# EAGLE library part 74HC08D_AND (library eagle-library-engr-245-s22)
Quad 2-input AND gate
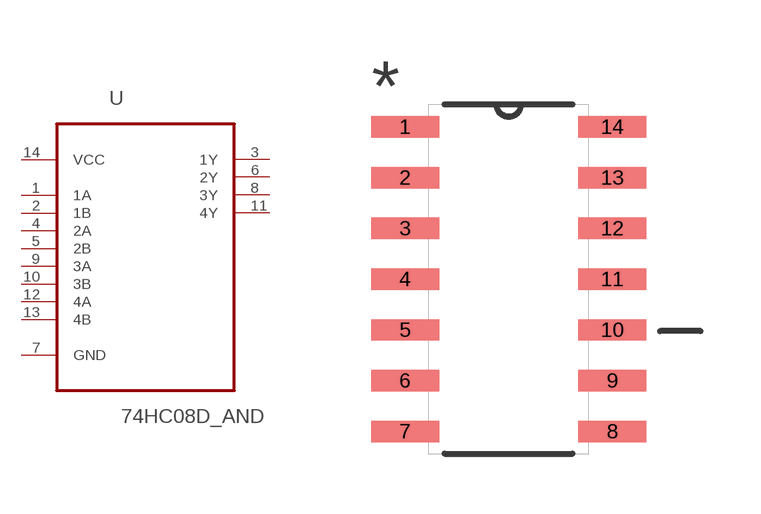
[diagram p10: symbol with the pads of SOIC127P600X175-14N; footprint SOIC127P600X175-14N]

Designator prefix U

## 74HC08D_AND-SOIC_14_N (AVAILABILITY: Good; DESCRIPTION: 74HC Series 6 V Quad 2-Input AND Gate Surface Mount - SOIC-14; MF: NXP Semiconductors; MP: 74HC08D,653; PACKAGE: SOIC-14 NXP Semiconductors; PRICE: 0.12 USD)  [SOIC127P600X175-14N]
1  1A  in
2  1B  in
3  1Y  out
4  2A  in
5  2B  in
6  2Y  out
7  GND  pas
8  3Y  out
9  3A  in
10  3B  in
11  4Y  out
12  4A  in
13  4B  in
14  VCC  pwr

## Footprint SOIC127P600X175-14N (pad centres in mm)
smd 1.702 x 0.533: 1 -2.591,3.81; 2 -2.591,2.54; 3 -2.591,1.27; 4 -2.591,0; 5 -2.591,-1.27; 6 -2.591,-2.54; 7 -2.591,-3.81; 8 2.591,-3.81; 9 2.591,-2.54; 10 2.591,-1.27; 11 2.591,0; 12 2.591,1.27; 13 2.591,2.54; 14 2.591,3.81